# EAGLE library part SIM8066-6-1-14-01-A_REVA (library simCardHolder)
Check availability <https://pricing.snapeda.com/parts/SIM8066-6-1-14-01-A/Global%20Connector%20Technology/view-part?ref=eda>
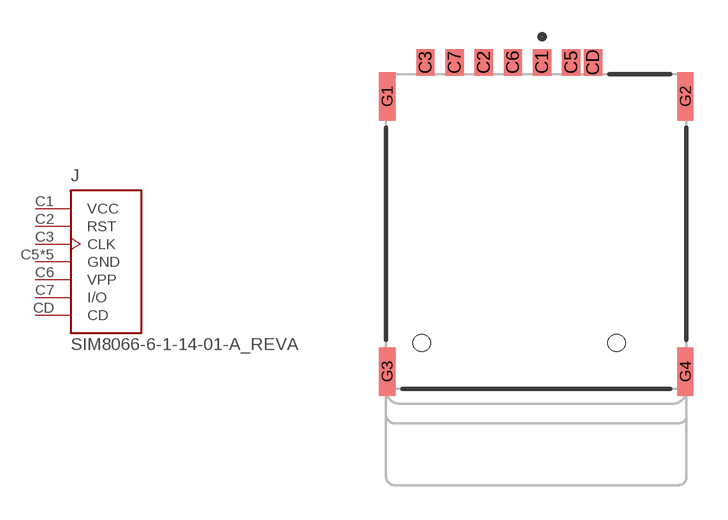
[diagram p0: symbol with the pads of GCT_SIM8066-6-1-14-01-A_REVA; footprint GCT_SIM8066-6-1-14-01-A_REVA]

Designator prefix J

## SIM8066-6-1-14-01-A_REVA (AVAILABILITY: In Stock; CHECK_PRICES: https://www.snapeda.com/parts/SIM8066-6-1-14-01-A/Global+Connector+Technology/view-part/?ref=eda; DESCRIPTION: 7 (6 + 1) Position Card Connector NANO SIM Surface Mount, Right Angle Gold; MF: Global Connector Technology; MP: SIM8066-6-1-14-01-A; PACKAGE: None; PRICE: None; SNAPEDA_LINK: https://www.snapeda.com/parts/SIM8066-6-1-14-01-A/Global+Connector+Technology/view-part/?ref=snap)  [GCT_SIM8066-6-1-14-01-A_REVA]
C1  VCC  pwr
C2  RST  in
C3  CLK  in
C5  GND  pwr
C6  VPP  pwr
C7  I/O
CD  CD
G1  GND  pwr
G2  GND  pwr
G3  GND  pwr
G4  GND  pwr

## Footprint GCT_SIM8066-6-1-14-01-A_REVA (pad centres in mm)
smd 0.8 x 1.14: C1 0.25,7.37; C2 -2.29,7.37; C3 -4.83,7.37; C5 1.52,7.37; C6 -1.02,7.37; C7 -3.56,7.37; CD 2.47,7.37
smd 0.7 x 2.1: G1 -6.5,5.89; G2 6.5,5.89; G3 -6.5,-6.11; G4 6.5,-6.11
hole 0.75 at -5,-4.86
hole 0.75 at 3.5,-4.86